# EAGLE library part 8X4164 (library coco)
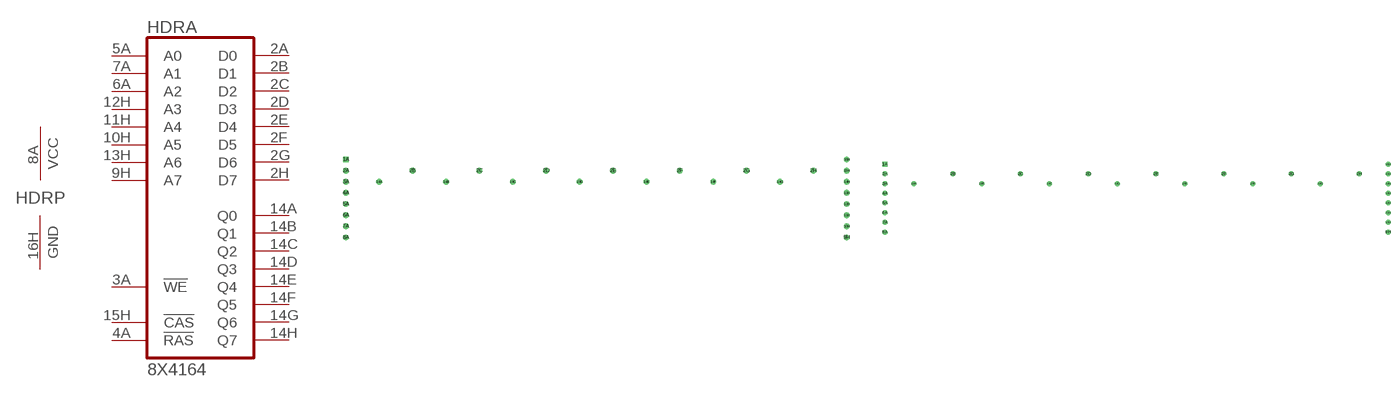
[diagram p5: symbol with the pads of 8XDIL16_REV_8709285; footprints 8XDIL16_REV_8709285, 8XDIL16_REV_8709416]

Designator prefix HDR; gates P=PWR-GND A=4164X8_DRAM

## 8X4164N  [8XDIL16_REV_8709285]
2A  A:D0
2B  A:D1
2C  A:D2
2D  A:D3
2E  A:D4
2F  A:D5
2G  A:D6
2H  A:D7
3A  A:!WE  in
4A  A:!RAS  in
5A  A:A0  in
6A  A:A2  in
7A  A:A1  in
8A  P:VCC  pwr
9H  A:A7  in
10H  A:A5  in
11H  A:A4  in
12H  A:A3  in
13H  A:A6  in
14A  A:Q0
14B  A:Q1
14C  A:Q2
14D  A:Q3
14E  A:Q4
14F  A:Q5
14G  A:Q6
14H  A:Q7
15H  A:!CAS  in
16H  P:GND  pwr

## 8X4164W  [8XDIL16_REV_8709416]
Pads as for 8XDIL16_REV_8709285

## Footprint 8XDIL16_REV_8709285 (pad centres in mm)
Dual In Line Package
drill 0.813 square: 1A -57.15,19.05
drill 0.813: 2A -57.15,16.51; 2B -41.91,16.51; 2C -26.67,16.51; 2D -11.43,16.51; 2E 3.81,16.51; 2F 19.05,16.51; 2G 34.29,16.51; 2H 49.53,16.51; 3A -57.15,13.97; 4A -57.15,11.43; 5A -57.15,8.89; 6A -57.15,6.35; 7A -57.15,3.81; 8A -57.15,1.27; 9H 57.15,1.27; 10H 57.15,3.81; 11H 57.15,6.35; 12H 57.15,8.89; 13H 57.15,11.43; 14A -49.53,13.97; 14B -34.29,13.97; 14C -19.05,13.97; 14D -3.81,13.97; 14E 11.43,13.97; 14F 26.67,13.97; 14G 41.91,13.97; 14H 57.15,13.97; 15H 57.15,16.51; 16H 57.15,19.05

## Footprint 8XDIL16_REV_8709416 (pad centres in mm)
Dual In Line Package
drill 0.813 square: 1A -66.04,19.05
drill 0.813: 2A -66.04,16.51; 2B -48.26,16.51; 2C -30.48,16.51; 2D -12.7,16.51; 2E 5.08,16.51; 2F 22.86,16.51; 2G 40.64,16.51; 2H 58.42,16.51; 3A -66.04,13.97; 4A -66.04,11.43; 5A -66.04,8.89; 6A -66.04,6.35; 7A -66.04,3.81; 8A -66.04,1.27; 9H 66.04,1.27; 10H 66.04,3.81; 11H 66.04,6.35; 12H 66.04,8.89; 13H 66.04,11.43; 14A -58.42,13.97; 14B -40.64,13.97; 14C -22.86,13.97; 14D -5.08,13.97; 14E 12.7,13.97; 14F 30.48,13.97; 14G 48.26,13.97; 14H 66.04,13.97; 15H 66.04,16.51; 16H 66.04,19.05